# Altium footprint library 74xx-little-us.PCBLIB: 17 footprints (part 2 of 2)
Each footprint in its own frame and in the unit in brackets; x right, y up, seen from the top. Pads: shape width x height; smd on the part's side, far side on the other; paste and mask are expansions set on the pad; w line width, h text height; cw(c..) or ccw(c..) is an arc to the next point about the centre after c.
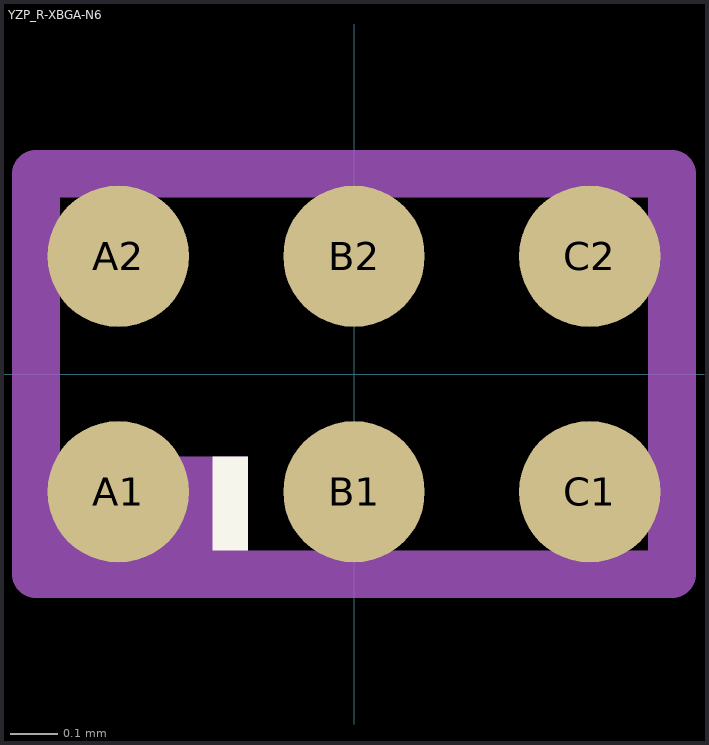
[diagram p1: the footprint, top view; thin cyan lines are the x and y axes]

## YZP_R-XBGA-N6 [mm]
pads (6):
  rrect100% 0.3x0.3 smd: A1(-0.5,-0.25) A2(-0.5,0.25) B1(0,-0.25) B2(0,0.25) C1(0.5,-0.25) C2(0.5,0.25)
Top Overlay:
  rectangle: -0.3,-0.375 -0.225,-0.175
Top Solder:
  circle w0: c-0.5,-0.25 r0.175
  circle w0: c0,-0.25 r0.175
  circle w0: c0.5,-0.25 r0.175
  circle w0: c0.5,0.25 r0.175
  circle w0: c0,0.25 r0.175
  circle w0: c-0.5,0.25 r0.175
Mechanical 16:
  rectangle: -0.675,-0.4 -0.225,-0.175
  lines w0.102: -0.675,-0.425 0.675,-0.425 0.675,0.425 -0.675,0.425 -0.675,-0.425